# Altium schematic symbol library DLW43.SchLib: 1 symbol
Pins are listed as number, name and electrical type; pins without a type are passive.

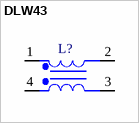
[diagram p0: symbol DLW43]

## DLW43
designator L?
IND CHK 90 OHM@100MHZ 330MA 25% 0805
pins: 1, 2, 3, 4